# Altium footprint library QFP.PcbLib: 39 footprints (part 2 of 3)
Each footprint in its own frame and in the unit in brackets; x right, y up, seen from the top. Pads: shape width x height; smd on the part's side, far side on the other; paste and mask are expansions set on the pad; w line width, h text height; cw(c..) or ccw(c..) is an arc to the next point about the centre after c.
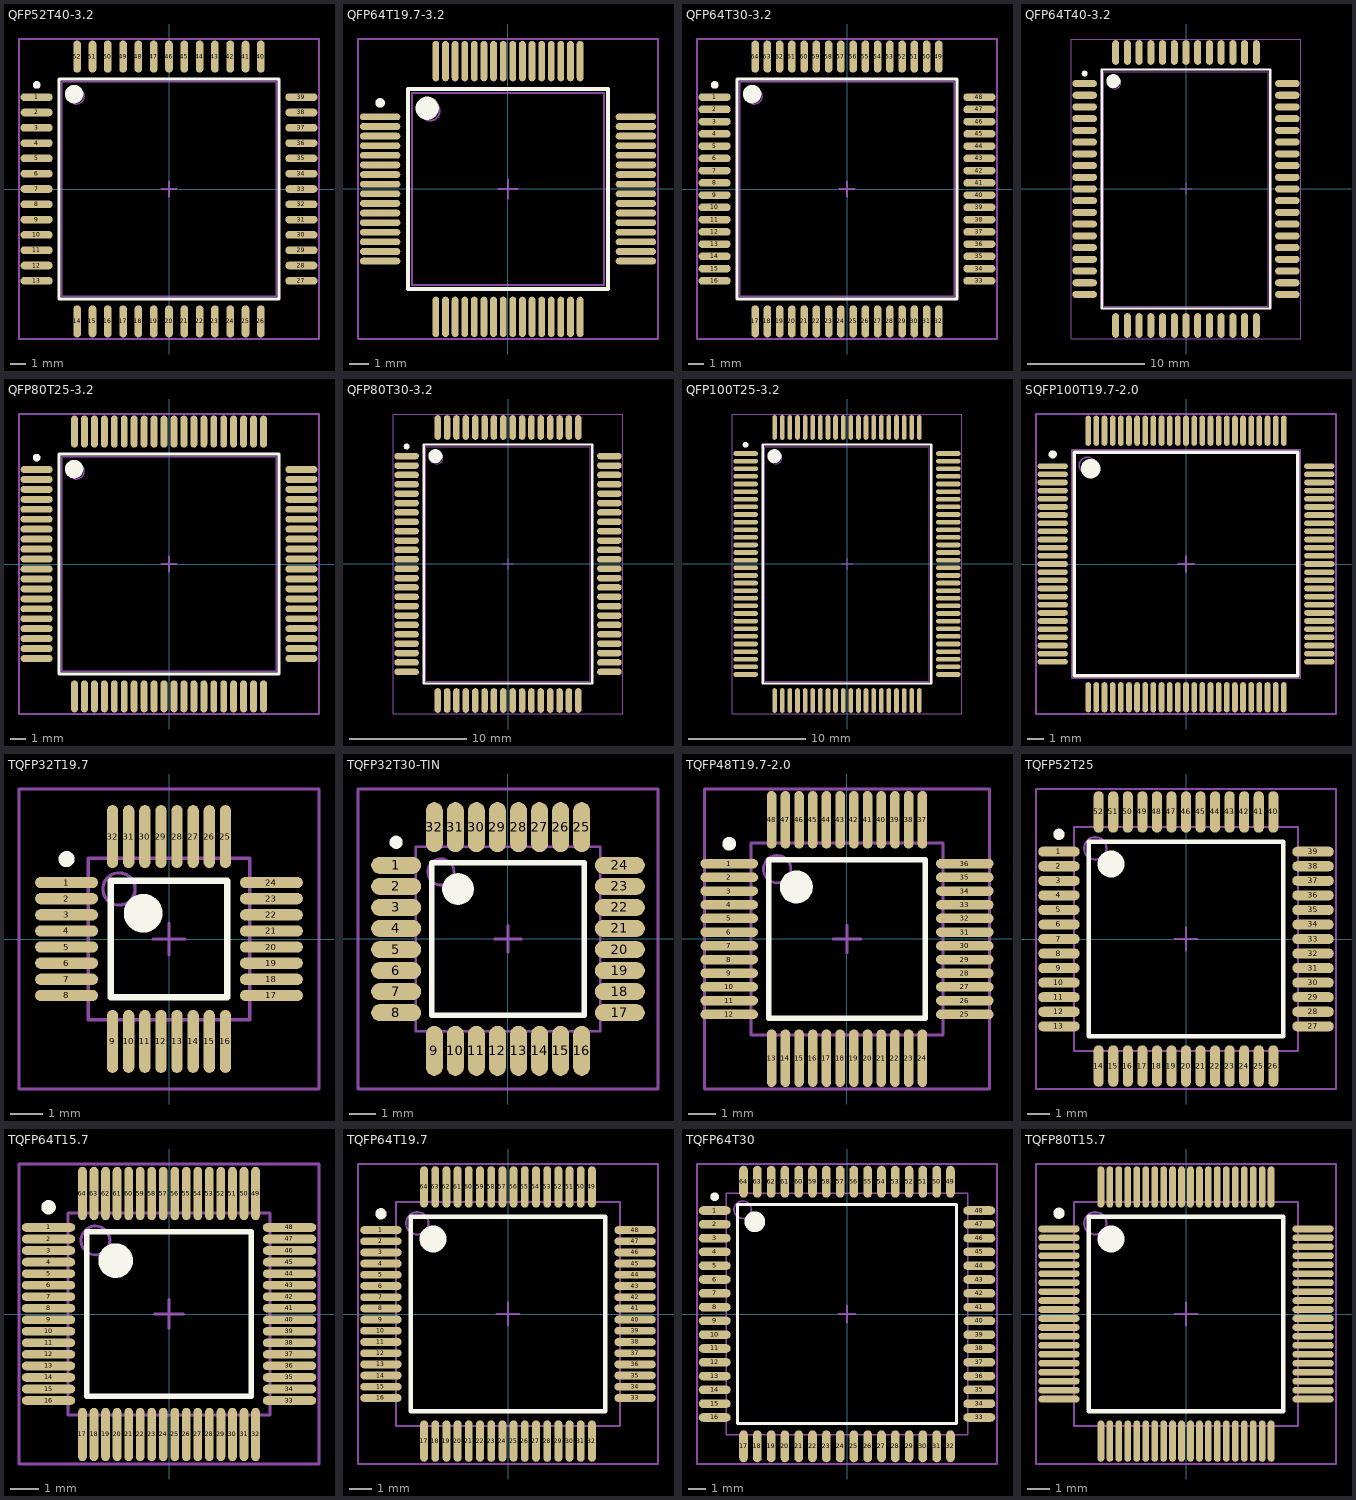
[diagram p1: the footprints below, top view; thin cyan lines are the x and y axes]

## QFP52T40-3.2 [mm] "52 3.2mm 14 x 14mm 1.0mm (40mil)"
height 2
pads (52):
  oval 2.1x0.5 smd: 1(-8.65,6) 2(-8.65,5) 3(-8.65,4) 4(-8.65,3) 5(-8.65,2) 6(-8.65,1) 7(-8.65,0) 8(-8.65,-1) 9(-8.65,-2) 10(-8.65,-3) 11(-8.65,-4) 12(-8.65,-5) 13(-8.65,-6) 27(8.65,-6) 28(8.65,-5) 29(8.65,-4) 30(8.65,-3) 31(8.65,-2) 32(8.65,-1) 33(8.65,0) 34(8.65,1) 35(8.65,2) 36(8.65,3) 37(8.65,4) 38(8.65,5) 39(8.65,6)
  oval 0.5x2.1 smd: 14(-6,-8.65) 15(-5,-8.65) 16(-4,-8.65) 17(-3,-8.65) 18(-2,-8.65) 19(-1,-8.65) 20(0,-8.65) 21(1,-8.65) 22(2,-8.65) 23(3,-8.65) 24(4,-8.65) 25(5,-8.65) 26(6,-8.65) 40(6,8.65) 41(5,8.65) 42(4,8.65) 43(3,8.65) 44(2,8.65) 45(1,8.65) 46(0,8.65) 47(-1,8.65) 48(-2,8.65) 49(-3,8.65) 50(-4,8.65) 51(-5,8.65) 52(-6,8.65)
Top Overlay:
  circle w0.6: c-6.2,6.2 r0.3
  circle w0.25: c-8.65,6.8 r0.125
  lines w0.2: -7.2,-7.2 7.2,-7.2 7.2,7.2 -7.2,7.2 -7.2,-7.2
Mechanical 13:
  circle w0.1: c-6.05,6.05 r0.5
  lines w0.1: -7,-7 7,-7 7,7 -7,7 -7,-7
Mechanical 15:
  lines w0.1: -0.5,0 0.5,0 ; 0,-0.5 0,0.5 ; -9.8,-9.8 9.8,-9.8 9.8,9.8 -9.8,9.8 -9.8,-9.8
3D body: height 2, standoff 0.4, extent -7,-7 7,7

## QFP64T19.7-3.2 [mm] "64 3.2mm 10 x 10mm 0.5mm (19.7mil)"
height 2
pads (64):
  oval 2.1x0.35 smd: 1(-6.65,3.75) 2(-6.65,3.25) 3(-6.65,2.75) 4(-6.65,2.25) 5(-6.65,1.75) 6(-6.65,1.25) 7(-6.65,0.75) 8(-6.65,0.25) 9(-6.65,-0.25) 10(-6.65,-0.75) 11(-6.65,-1.25) 12(-6.65,-1.75) 13(-6.65,-2.25) 14(-6.65,-2.75) 15(-6.65,-3.25) 16(-6.65,-3.75) 33(6.65,-3.75) 34(6.65,-3.25) 35(6.65,-2.75) 36(6.65,-2.25) 37(6.65,-1.75) 38(6.65,-1.25) 39(6.65,-0.75) 40(6.65,-0.25) 41(6.65,0.25) 42(6.65,0.75) 43(6.65,1.25) 44(6.65,1.75) 45(6.65,2.25) 46(6.65,2.75) 47(6.65,3.25) 48(6.65,3.75)
  oval 0.35x2.1 smd: 17(-3.75,-6.65) 18(-3.25,-6.65) 19(-2.75,-6.65) 20(-2.25,-6.65) 21(-1.75,-6.65) 22(-1.25,-6.65) 23(-0.75,-6.65) 24(-0.25,-6.65) 25(0.25,-6.65) 26(0.75,-6.65) 27(1.25,-6.65) 28(1.75,-6.65) 29(2.25,-6.65) 30(2.75,-6.65) 31(3.25,-6.65) 32(3.75,-6.65) 49(3.75,6.65) 50(3.25,6.65) 51(2.75,6.65) 52(2.25,6.65) 53(1.75,6.65) 54(1.25,6.65) 55(0.75,6.65) 56(0.25,6.65) 57(-0.25,6.65) 58(-0.75,6.65) 59(-1.25,6.65) 60(-1.75,6.65) 61(-2.25,6.65) 62(-2.75,6.65) 63(-3.25,6.65) 64(-3.75,6.65)
Top Overlay:
  circle w0.6: c-4.2,4.2 r0.3
  circle w0.25: c-6.65,4.475 r0.125
  lines w0.2: -5.2,-5.2 5.2,-5.2 5.2,5.2 -5.2,5.2 -5.2,-5.2
Mechanical 13:
  circle w0.1: c-4.05,4.05 r0.5
  lines w0.1: -5,-5 5,-5 5,5 -5,5 -5,-5
Mechanical 15:
  lines w0.1: -0.5,0 0.5,0 ; 0,-0.5 0,0.5 ; -7.8,-7.8 7.8,-7.8 7.8,7.8 -7.8,7.8 -7.8,-7.8
3D body: height 2, standoff 0.4, extent -5,-5 5,5

## QFP64T30-3.2 [mm] "64 3.2mm 14 x 14mm 0.8mm (31.5mil)"
height 2
pads (64):
  oval 2.1x0.5 smd: 1(-8.65,6) 2(-8.65,5.2) 3(-8.65,4.4) 4(-8.65,3.6) 5(-8.65,2.8) 6(-8.65,2) 7(-8.65,1.2) 8(-8.65,0.4) 9(-8.65,-0.4) 10(-8.65,-1.2) 11(-8.65,-2) 12(-8.65,-2.8) 13(-8.65,-3.6) 14(-8.65,-4.4) 15(-8.65,-5.2) 16(-8.65,-6) 33(8.65,-6) 34(8.65,-5.2) 35(8.65,-4.4) 36(8.65,-3.6) 37(8.65,-2.8) 38(8.65,-2) 39(8.65,-1.2) 40(8.65,-0.4) 41(8.65,0.4) 42(8.65,1.2) 43(8.65,2) 44(8.65,2.8) 45(8.65,3.6) 46(8.65,4.4) 47(8.65,5.2) 48(8.65,6)
  oval 0.5x2.1 smd: 17(-6,-8.65) 18(-5.2,-8.65) 19(-4.4,-8.65) 20(-3.6,-8.65) 21(-2.8,-8.65) 22(-2,-8.65) 23(-1.2,-8.65) 24(-0.4,-8.65) 25(0.4,-8.65) 26(1.2,-8.65) 27(2,-8.65) 28(2.8,-8.65) 29(3.6,-8.65) 30(4.4,-8.65) 31(5.2,-8.65) 32(6,-8.65) 49(6,8.65) 50(5.2,8.65) 51(4.4,8.65) 52(3.6,8.65) 53(2.8,8.65) 54(2,8.65) 55(1.2,8.65) 56(0.4,8.65) 57(-0.4,8.65) 58(-1.2,8.65) 59(-2,8.65) 60(-2.8,8.65) 61(-3.6,8.65) 62(-4.4,8.65) 63(-5.2,8.65) 64(-6,8.65)
Top Overlay:
  circle w0.25: c-8.65,6.8 r0.125
  circle w0.6: c-6.2,6.2 r0.3
  lines w0.2: -7.2,-7.2 -7.2,7.2 7.2,7.2 7.2,-7.2 -7.2,-7.2
Mechanical 13:
  circle w0.1: c-6.05,6.05 r0.5
  lines w0.1: -7,-7 -7,7 7,7 7,-7 -7,-7
Mechanical 15:
  lines w0.1: -0.5,0 0.5,0 ; 0,-0.5 0,0.5 ; -9.8,-9.8 -9.8,9.8 9.8,9.8 9.8,-9.8 -9.8,-9.8
3D body: height 2, standoff 0.4, extent -7,-7 7,7

## QFP64T40-3.2 [mm] "64 3.2mm 14 x 20mm 1.0mm (40mil)"
height 2.7
pads (64):
  oval 2.1x0.6 smd: 1(-8.65,9) 2(-8.65,8) 3(-8.65,7) 4(-8.65,6) 5(-8.65,5) 6(-8.65,4) 7(-8.65,3) 8(-8.65,2) 9(-8.65,1) 10(-8.65,0) 11(-8.65,-1) 12(-8.65,-2) 13(-8.65,-3) 14(-8.65,-4) 15(-8.65,-5) 16(-8.65,-6) 17(-8.65,-7) 18(-8.65,-8) 19(-8.65,-9) 33(8.65,-9) 34(8.65,-8) 35(8.65,-7) 36(8.65,-6) 37(8.65,-5) 38(8.65,-4) 39(8.65,-3) 40(8.65,-2) 41(8.65,-1) 42(8.65,0) 43(8.65,1) 44(8.65,2) 45(8.65,3) 46(8.65,4) 47(8.65,5) 48(8.65,6) 49(8.65,7) 50(8.65,8) 51(8.65,9)
  oval 0.6x2.1 smd: 20(-6,-11.65) 21(-5,-11.65) 22(-4,-11.65) 23(-3,-11.65) 24(-2,-11.65) 25(-1,-11.65) 26(0,-11.65) 27(1,-11.65) 28(2,-11.65) 29(3,-11.65) 30(4,-11.65) 31(5,-11.65) 32(6,-11.65) 52(6,11.65) 53(5,11.65) 54(4,11.65) 55(3,11.65) 56(2,11.65) 57(1,11.65) 58(0,11.65) 59(-1,11.65) 60(-2,11.65) 61(-3,11.65) 62(-4,11.65) 63(-5,11.65) 64(-6,11.65)
Top Overlay:
  circle w0.25: c-8.65,9.85 r0.125
  circle w0.6: c-6.2,9.2 r0.3
  lines w0.2: -7.2,-10.2 -7.2,10.2 7.2,10.2 7.2,-10.2 -7.2,-10.2
Mechanical 13:
  circle w0.1: c-6.05,9.05 r0.5
  lines w0.1: -7,-10 -7,10 7,10 7,-10 -7,-10
Mechanical 15:
  lines w0.1: -0.5,0 0.5,0 ; 0,-0.5 0,0.5 ; -9.8,-12.8 -9.8,12.8 9.8,12.8 9.8,-12.8 -9.8,-12.8
3D body: height 2.7, standoff 0.5, extent -7,-10 7,10

## QFP80T25-3.2 [mm] "80 3.2mm 14 x 14mm 0.65mm (25.6mil)"
height 2
pads (80):
  oval 2.1x0.45 smd: 1(-8.65,6.175) 2(-8.65,5.525) 3(-8.65,4.875) 4(-8.65,4.225) 5(-8.65,3.575) 6(-8.65,2.925) 7(-8.65,2.275) 8(-8.65,1.625) 9(-8.65,0.975) 10(-8.65,0.325) 11(-8.65,-0.325) 12(-8.65,-0.975) 13(-8.65,-1.625) 14(-8.65,-2.275) 15(-8.65,-2.925) 16(-8.65,-3.575) 17(-8.65,-4.225) 18(-8.65,-4.875) 19(-8.65,-5.525) 20(-8.65,-6.175) 41(8.65,-6.175) 42(8.65,-5.525) 43(8.65,-4.875) 44(8.65,-4.225) 45(8.65,-3.575) 46(8.65,-2.925) 47(8.65,-2.275) 48(8.65,-1.625) 49(8.65,-0.975) 50(8.65,-0.325) 51(8.65,0.325) 52(8.65,0.975) 53(8.65,1.625) 54(8.65,2.275) 55(8.65,2.925) 56(8.65,3.575) 57(8.65,4.225) 58(8.65,4.875) 59(8.65,5.525) 60(8.65,6.175)
  oval 0.45x2.1 smd: 21(-6.175,-8.65) 22(-5.525,-8.65) 23(-4.875,-8.65) 24(-4.225,-8.65) 25(-3.575,-8.65) 26(-2.925,-8.65) 27(-2.275,-8.65) 28(-1.625,-8.65) 29(-0.975,-8.65) 30(-0.325,-8.65) 31(0.325,-8.65) 32(0.975,-8.65) 33(1.625,-8.65) 34(2.275,-8.65) 35(2.925,-8.65) 36(3.575,-8.65) 37(4.225,-8.65) 38(4.875,-8.65) 39(5.525,-8.65) 40(6.175,-8.65) 61(6.175,8.65) 62(5.525,8.65) 63(4.875,8.65) 64(4.225,8.65) 65(3.575,8.65) 66(2.925,8.65) 67(2.275,8.65) 68(1.625,8.65) 69(0.975,8.65) 70(0.325,8.65) 71(-0.325,8.65) 72(-0.975,8.65) 73(-1.625,8.65) 74(-2.275,8.65) 75(-2.925,8.65) 76(-3.575,8.65) 77(-4.225,8.65) 78(-4.875,8.65) 79(-5.525,8.65) 80(-6.175,8.65)
Top Overlay:
  circle w0.25: c-8.65,6.95 r0.125
  circle w0.6: c-6.2,6.2 r0.3
  lines w0.2: -7.2,-7.2 -7.2,7.2 7.2,7.2 7.2,-7.2 -7.2,-7.2
Mechanical 13:
  circle w0.1: c-6.05,6.05 r0.5
  lines w0.1: -7,-7 -7,7 7,7 7,-7 -7,-7
Mechanical 15:
  lines w0.1: -0.5,0 0.5,0 ; 0,-0.5 0,0.5 ; -9.8,-9.8 -9.8,9.8 9.8,9.8 9.8,-9.8 -9.8,-9.8
3D body: height 2, standoff 0.4, extent -7,-7 7,7

## QFP80T30-3.2 [mm] "80 3.2mm 14 x 20mm 0.8mm (31.5mil)"
height 2.7
pads (80):
  oval 2.1x0.55 smd: 1(-8.65,9.2) 2(-8.65,8.4) 3(-8.65,7.6) 4(-8.65,6.8) 5(-8.65,6) 6(-8.65,5.2) 7(-8.65,4.4) 8(-8.65,3.6) 9(-8.65,2.8) 10(-8.65,2) 11(-8.65,1.2) 12(-8.65,0.4) 13(-8.65,-0.4) 14(-8.65,-1.2) 15(-8.65,-2) 16(-8.65,-2.8) 17(-8.65,-3.6) 18(-8.65,-4.4) 19(-8.65,-5.2) 20(-8.65,-6) 21(-8.65,-6.8) 22(-8.65,-7.6) 23(-8.65,-8.4) 24(-8.65,-9.2) 41(8.65,-9.2) 42(8.65,-8.4) 43(8.65,-7.6) 44(8.65,-6.8) 45(8.65,-6) 46(8.65,-5.2) 47(8.65,-4.4) 48(8.65,-3.6) 49(8.65,-2.8) 50(8.65,-2) 51(8.65,-1.2) 52(8.65,-0.4) 53(8.65,0.4) 54(8.65,1.2) 55(8.65,2) 56(8.65,2.8) 57(8.65,3.6) 58(8.65,4.4) 59(8.65,5.2) 60(8.65,6) 61(8.65,6.8) 62(8.65,7.6) 63(8.65,8.4) 64(8.65,9.2)
  oval 0.55x2.1 smd: 25(-6,-11.65) 26(-5.2,-11.65) 27(-4.4,-11.65) 28(-3.6,-11.65) 29(-2.8,-11.65) 30(-2,-11.65) 31(-1.2,-11.65) 32(-0.4,-11.65) 33(0.4,-11.65) 34(1.2,-11.65) 35(2,-11.65) 36(2.8,-11.65) 37(3.6,-11.65) 38(4.4,-11.65) 39(5.2,-11.65) 40(6,-11.65) 65(6,11.65) 66(5.2,11.65) 67(4.4,11.65) 68(3.6,11.65) 69(2.8,11.65) 70(2,11.65) 71(1.2,11.65) 72(0.4,11.65) 73(-0.4,11.65) 74(-1.2,11.65) 75(-2,11.65) 76(-2.8,11.65) 77(-3.6,11.65) 78(-4.4,11.65) 79(-5.2,11.65) 80(-6,11.65)
Top Overlay:
  circle w0.25: c-8.65,10.025 r0.125
  circle w0.6: c-6.2,9.2 r0.3
  lines w0.2: -7.2,-10.2 -7.2,10.2 7.2,10.2 7.2,-10.2 -7.2,-10.2
Mechanical 13:
  circle w0.1: c-6.05,9.05 r0.5
  lines w0.1: -7,-10 -7,10 7,10 7,-10 -7,-10
Mechanical 15:
  lines w0.1: -0.5,0 0.5,0 ; 0,-0.5 0,0.5 ; -9.8,-12.8 -9.8,12.8 9.8,12.8 9.8,-12.8 -9.8,-12.8
3D body: height 2.7, standoff 0.5, extent -7,-10 7,10

## QFP100T25-3.2 [mm] "100 3.2mm 14 x 20mm 0.65mm (25.6mil)"
height 2.7
pads (100):
  oval 2.1x0.4 smd: 1(-8.65,9.425) 2(-8.65,8.775) 3(-8.65,8.125) 4(-8.65,7.475) 5(-8.65,6.825) 6(-8.65,6.175) 7(-8.65,5.525) 8(-8.65,4.875) 9(-8.65,4.225) 10(-8.65,3.575) 11(-8.65,2.925) 12(-8.65,2.275) 13(-8.65,1.625) 14(-8.65,0.975) 15(-8.65,0.325) 16(-8.65,-0.325) 17(-8.65,-0.975) 18(-8.65,-1.625) 19(-8.65,-2.275) 20(-8.65,-2.925) 21(-8.65,-3.575) 22(-8.65,-4.225) 23(-8.65,-4.875) 24(-8.65,-5.525) 25(-8.65,-6.175) 26(-8.65,-6.825) 27(-8.65,-7.475) 28(-8.65,-8.125) 29(-8.65,-8.775) 30(-8.65,-9.425) 51(8.65,-9.425) 52(8.65,-8.775) 53(8.65,-8.125) 54(8.65,-7.475) 55(8.65,-6.825) 56(8.65,-6.175) 57(8.65,-5.525) 58(8.65,-4.875) 59(8.65,-4.225) 60(8.65,-3.575) 61(8.65,-2.925) 62(8.65,-2.275) 63(8.65,-1.625) 64(8.65,-0.975) 65(8.65,-0.325) 66(8.65,0.325) 67(8.65,0.975) 68(8.65,1.625) 69(8.65,2.275) 70(8.65,2.925) 71(8.65,3.575) 72(8.65,4.225) 73(8.65,4.875) 74(8.65,5.525) 75(8.65,6.175) 76(8.65,6.825) 77(8.65,7.475) 78(8.65,8.125) 79(8.65,8.775) 80(8.65,9.425)
  oval 0.4x2.1 smd: 31(-6.175,-11.65) 32(-5.525,-11.65) 33(-4.875,-11.65) 34(-4.225,-11.65) 35(-3.575,-11.65) 36(-2.925,-11.65) 37(-2.275,-11.65) 38(-1.625,-11.65) 39(-0.975,-11.65) 40(-0.325,-11.65) 41(0.325,-11.65) 42(0.975,-11.65) 43(1.625,-11.65) 44(2.275,-11.65) 45(2.925,-11.65) 46(3.575,-11.65) 47(4.225,-11.65) 48(4.875,-11.65) 49(5.525,-11.65) 50(6.175,-11.65) 81(6.175,11.65) 82(5.525,11.65) 83(4.875,11.65) 84(4.225,11.65) 85(3.575,11.65) 86(2.925,11.65) 87(2.275,11.65) 88(1.625,11.65) 89(0.975,11.65) 90(0.325,11.65) 91(-0.325,11.65) 92(-0.975,11.65) 93(-1.625,11.65) 94(-2.275,11.65) 95(-2.925,11.65) 96(-3.575,11.65) 97(-4.225,11.65) 98(-4.875,11.65) 99(-5.525,11.65) 100(-6.175,11.65)
Top Overlay:
  circle w0.25: c-8.65,10.175 r0.125
  circle w0.6: c-6.2,9.2 r0.3
  lines w0.2: -7.2,-10.2 -7.2,10.2 7.2,10.2 7.2,-10.2 -7.2,-10.2
Mechanical 13:
  circle w0.1: c-6.05,9.05 r0.5
  lines w0.1: -7,-10 -7,10 7,10 7,-10 -7,-10
Mechanical 15:
  lines w0.1: -0.5,0 0.5,0 ; 0,-0.5 0,0.5 ; -9.8,-12.8 -9.8,12.8 9.8,12.8 9.8,-12.8 -9.8,-12.8
3D body: height 2.7, standoff 0.5, extent -7,-10 7,10

## SQFP100T19.7-2.0 [mm] "100 2.0mm 14 x 14mm 0.5mm (19.7mil)"
height 2.7
pads (100):
  oval 1.85x0.35 smd: 1(-8.175,6) 2(-8.175,5.5) 3(-8.175,5) 4(-8.175,4.5) 5(-8.175,4) 6(-8.175,3.5) 7(-8.175,3) 8(-8.175,2.5) 9(-8.175,2) 10(-8.175,1.5) 11(-8.175,1) 12(-8.175,0.5) 13(-8.175,0) 14(-8.175,-0.5) 15(-8.175,-1) 16(-8.175,-1.5) 17(-8.175,-2) 18(-8.175,-2.5) 19(-8.175,-3) 20(-8.175,-3.5) 21(-8.175,-4) 22(-8.175,-4.5) 23(-8.175,-5) 24(-8.175,-5.5) 25(-8.175,-6) 51(8.175,-6) 52(8.175,-5.5) 53(8.175,-5) 54(8.175,-4.5) 55(8.175,-4) 56(8.175,-3.5) 57(8.175,-3) 58(8.175,-2.5) 59(8.175,-2) 60(8.175,-1.5) 61(8.175,-1) 62(8.175,-0.5) 63(8.175,0) 64(8.175,0.5) 65(8.175,1) 66(8.175,1.5) 67(8.175,2) 68(8.175,2.5) 69(8.175,3) 70(8.175,3.5) 71(8.175,4) 72(8.175,4.5) 73(8.175,5) 74(8.175,5.5) 75(8.175,6)
  oval 0.35x1.85 smd: 26(-6,-8.175) 27(-5.5,-8.175) 28(-5,-8.175) 29(-4.5,-8.175) 30(-4,-8.175) 31(-3.5,-8.175) 32(-3,-8.175) 33(-2.5,-8.175) 34(-2,-8.175) 35(-1.5,-8.175) 36(-1,-8.175) 37(-0.5,-8.175) 38(0,-8.175) 39(0.5,-8.175) 40(1,-8.175) 41(1.5,-8.175) 42(2,-8.175) 43(2.5,-8.175) 44(3,-8.175) 45(3.5,-8.175) 46(4,-8.175) 47(4.5,-8.175) 48(5,-8.175) 49(5.5,-8.175) 50(6,-8.175) 76(6,8.175) 77(5.5,8.175) 78(5,8.175) 79(4.5,8.175) 80(4,8.175) 81(3.5,8.175) 82(3,8.175) 83(2.5,8.175) 84(2,8.175) 85(1.5,8.175) 86(1,8.175) 87(0.5,8.175) 88(0,8.175) 89(-0.5,8.175) 90(-1,8.175) 91(-1.5,8.175) 92(-2,8.175) 93(-2.5,8.175) 94(-3,8.175) 95(-3.5,8.175) 96(-4,8.175) 97(-4.5,8.175) 98(-5,8.175) 99(-5.5,8.175) 100(-6,8.175)
Top Overlay:
  circle w0.6: c-5.85,5.85 r0.3
  circle w0.25: c-8.175,6.725 r0.125
  lines w0.2: -6.85,-6.85 6.85,-6.85 6.85,6.85 -6.85,6.85 -6.85,-6.85
Mechanical 13:
  circle w0.1: c-6.05,6.05 r0.5
  lines w0.1: -7,-7 7,-7 7,7 -7,7 -7,-7
Mechanical 15:
  lines w0.1: -0.5,0 0.5,0 ; 0,-0.5 0,0.5 ; -9.2,-9.2 9.2,-9.2 9.2,9.2 -9.2,9.2 -9.2,-9.2
3D body: height 2.7, standoff 0.2, extent -7,-7 7,7

## TQFP32T19.7 [mm] "32 pos, 5 x 5mm body,  0.5mm (19.7mil) pitch"
height 1.3
pads (32):
  oval 1.95x0.35 smd: 1(-3.175,1.75) 2(-3.175,1.25) 3(-3.175,0.75) 4(-3.175,0.25) 5(-3.175,-0.25) 6(-3.175,-0.75) 7(-3.175,-1.25) 8(-3.175,-1.75) 17(3.175,-1.75) 18(3.175,-1.25) 19(3.175,-0.75) 20(3.175,-0.25) 21(3.175,0.25) 22(3.175,0.75) 23(3.175,1.25) 24(3.175,1.75)
  oval 0.35x1.95 smd: 9(-1.75,-3.175) 10(-1.25,-3.175) 11(-0.75,-3.175) 12(-0.25,-3.175) 13(0.25,-3.175) 14(0.75,-3.175) 15(1.25,-3.175) 16(1.75,-3.175) 25(1.75,3.175) 26(1.25,3.175) 27(0.75,3.175) 28(0.25,3.175) 29(-0.25,3.175) 30(-0.75,3.175) 31(-1.25,3.175) 32(-1.75,3.175)
Top Overlay:
  circle w0.25: c-3.175,2.475 r0.125
  circle w0.6: c-0.8,0.8 r0.3
  lines w0.2: -1.8,-1.8 -1.8,1.8 1.8,1.8 1.8,-1.8 -1.8,-1.8
Mechanical 13:
  circle w0.1: c-1.55,1.55 r0.5
  lines w0.1: -2.5,-2.5 -2.5,2.5 2.5,2.5 2.5,-2.5 -2.5,-2.5
Mechanical 15:
  lines w0.1: -0.5,0 0.5,0 ; 0,-0.5 0,0.5 ; -4.65,-4.65 -4.65,4.65 4.65,4.65 4.65,-4.65 -4.65,-4.65
3D body: height 1.3, standoff 0.1, extent -2.5,-2.5 2.5,2.5

## TQFP32T30-TIN [mm] "32  pos 7 x 7mm  body 0.8mm (31.5mil) pitch"
height 1.3
pads (32):
  oval 1.9x0.65 smd: 1(-4.25,2.8) 2(-4.25,2) 3(-4.25,1.2) 4(-4.25,0.4) 5(-4.25,-0.4) 6(-4.25,-1.2) 7(-4.25,-2) 8(-4.25,-2.8) 17(4.25,-2.8) 18(4.25,-2) 19(4.25,-1.2) 20(4.25,-0.4) 21(4.25,0.4) 22(4.25,1.2) 23(4.25,2) 24(4.25,2.8)
  oval 0.65x1.9 smd: 9(-2.8,-4.25) 10(-2,-4.25) 11(-1.2,-4.25) 12(-0.4,-4.25) 13(0.4,-4.25) 14(1.2,-4.25) 15(2,-4.25) 16(2.8,-4.25) 25(2.8,4.25) 26(2,4.25) 27(1.2,4.25) 28(0.4,4.25) 29(-0.4,4.25) 30(-1.2,4.25) 31(-2,4.25) 32(-2.8,4.25)
Top Overlay:
  circle w0.6: c-1.9,1.9 r0.3
  circle w0.25: c-4.25,3.675 r0.125
  lines w0.2: -2.9,-2.9 2.9,-2.9 2.9,2.9 -2.9,2.9 -2.9,-2.9
Mechanical 13:
  circle w0.1: c-2.55,2.55 r0.5
  lines w0.1: -3.5,-3.5 3.5,-3.5 3.5,3.5 -3.5,3.5 -3.5,-3.5
Mechanical 15:
  lines w0.1: -0.5,0 0.5,0 ; 0,-0.5 0,0.5 ; -5.7,-5.7 5.7,-5.7 5.7,5.7 -5.7,5.7 -5.7,-5.7
3D body: height 1.3, standoff 0.1, extent -3.5,-3.5 3.5,3.5

## TQFP48T19.7-2.0 [mm] "Leads 48 Pitch 0.5mm Body Size 7mmSQ"
height 1.2
pads (48):
  oval 2.1x0.35 smd: 1(-4.3,2.75) 2(-4.3,2.25) 3(-4.3,1.75) 4(-4.3,1.25) 5(-4.3,0.75) 6(-4.3,0.25) 7(-4.3,-0.25) 8(-4.3,-0.75) 9(-4.3,-1.25) 10(-4.3,-1.75) 11(-4.3,-2.25) 12(-4.3,-2.75) 25(4.3,-2.75) 26(4.3,-2.25) 27(4.3,-1.75) 28(4.3,-1.25) 29(4.3,-0.75) 30(4.3,-0.25) 31(4.3,0.25) 32(4.3,0.75) 33(4.3,1.25) 34(4.3,1.75) 35(4.3,2.25) 36(4.3,2.75)
  oval 0.35x2.1 smd: 13(-2.75,-4.35) 14(-2.25,-4.35) 15(-1.75,-4.35) 16(-1.25,-4.35) 17(-0.75,-4.35) 18(-0.25,-4.35) 19(0.25,-4.35) 20(0.75,-4.35) 21(1.25,-4.35) 22(1.75,-4.35) 23(2.25,-4.35) 24(2.75,-4.35) 37(2.75,4.35) 38(2.25,4.35) 39(1.75,4.35) 40(1.25,4.35) 41(0.75,4.35) 42(0.25,4.35) 43(-0.25,4.35) 44(-0.75,4.35) 45(-1.25,4.35) 46(-1.75,4.35) 47(-2.25,4.35) 48(-2.75,4.35)
Top Overlay:
  circle w0.6: c-1.85,1.9 r0.3
  circle w0.25: c-4.3,3.475 r0.125
  lines w0.2: -2.85,-2.9 2.85,-2.9 2.85,2.9 -2.85,2.9 -2.85,-2.9
Mechanical 13:
  circle w0.1: c-2.55,2.55 r0.5
  lines w0.1: -3.5,-3.5 3.5,-3.5 3.5,3.5 -3.5,3.5 -3.5,-3.5
Mechanical 15:
  lines w0.1: -0.5,0 0.5,0 ; 0,-0.5 0,0.5 ; -5.2,-5.475 5.2,-5.475 5.2,5.475 -5.2,5.475 -5.2,-5.475
3D body: height 1.2, standoff 0.2, extent -3.5,-3.5 3.5,3.5

## TQFP52T25 [mm] "52   10 x 10mm   0.65mm (25.6mil)"
height 1
pads (52):
  oval 1.85x0.45 smd: 1(-5.675,3.9) 2(-5.675,3.25) 3(-5.675,2.6) 4(-5.675,1.95) 5(-5.675,1.3) 6(-5.675,0.65) 7(-5.675,0) 8(-5.675,-0.65) 9(-5.675,-1.3) 10(-5.675,-1.95) 11(-5.675,-2.6) 12(-5.675,-3.25) 13(-5.675,-3.9) 27(5.675,-3.9) 28(5.675,-3.25) 29(5.675,-2.6) 30(5.675,-1.95) 31(5.675,-1.3) 32(5.675,-0.65) 33(5.675,0) 34(5.675,0.65) 35(5.675,1.3) 36(5.675,1.95) 37(5.675,2.6) 38(5.675,3.25) 39(5.675,3.9)
  oval 0.45x1.85 smd: 14(-3.9,-5.675) 15(-3.25,-5.675) 16(-2.6,-5.675) 17(-1.95,-5.675) 18(-1.3,-5.675) 19(-0.65,-5.675) 20(0,-5.675) 21(0.65,-5.675) 22(1.3,-5.675) 23(1.95,-5.675) 24(2.6,-5.675) 25(3.25,-5.675) 26(3.9,-5.675) 40(3.9,5.675) 41(3.25,5.675) 42(2.6,5.675) 43(1.95,5.675) 44(1.3,5.675) 45(0.65,5.675) 46(0,5.675) 47(-0.65,5.675) 48(-1.3,5.675) 49(-1.95,5.675) 50(-2.6,5.675) 51(-3.25,5.675) 52(-3.9,5.675)
Top Overlay:
  circle w0.6: c-3.35,3.35 r0.3
  circle w0.25: c-5.675,4.675 r0.125
  lines w0.2: -4.35,-4.35 4.35,-4.35 4.35,4.35 -4.35,4.35 -4.35,-4.35
Mechanical 13:
  circle w0.1: c-4.05,4.05 r0.5
  lines w0.1: -5,-5 5,-5 5,5 -5,5 -5,-5
Mechanical 15:
  lines w0.1: -0.5,0 0.5,0 ; 0,-0.5 0,0.5 ; -6.7,-6.7 6.7,-6.7 6.7,6.7 -6.7,6.7 -6.7,-6.7
3D body: height 1, standoff 0.2, extent -5,-5 5,5

## TQFP64T15.7 [mm] "64   7 x 7mm   0.4mm (15.7mil)"
height 1
pads (64):
  oval 1.85x0.3 smd: 1(-4.175,3) 2(-4.175,2.6) 3(-4.175,2.2) 4(-4.175,1.8) 5(-4.175,1.4) 6(-4.175,1) 7(-4.175,0.6) 8(-4.175,0.2) 9(-4.175,-0.2) 10(-4.175,-0.6) 11(-4.175,-1) 12(-4.175,-1.4) 13(-4.175,-1.8) 14(-4.175,-2.2) 15(-4.175,-2.6) 16(-4.175,-3) 33(4.175,-3) 34(4.175,-2.6) 35(4.175,-2.2) 36(4.175,-1.8) 37(4.175,-1.4) 38(4.175,-1) 39(4.175,-0.6) 40(4.175,-0.2) 41(4.175,0.2) 42(4.175,0.6) 43(4.175,1) 44(4.175,1.4) 45(4.175,1.8) 46(4.175,2.2) 47(4.175,2.6) 48(4.175,3)
  oval 0.3x1.85 smd: 17(-3,-4.175) 18(-2.6,-4.175) 19(-2.2,-4.175) 20(-1.8,-4.175) 21(-1.4,-4.175) 22(-1,-4.175) 23(-0.6,-4.175) 24(-0.2,-4.175) 25(0.2,-4.175) 26(0.6,-4.175) 27(1,-4.175) 28(1.4,-4.175) 29(1.8,-4.175) 30(2.2,-4.175) 31(2.6,-4.175) 32(3,-4.175) 49(3,4.175) 50(2.6,4.175) 51(2.2,4.175) 52(1.8,4.175) 53(1.4,4.175) 54(1,4.175) 55(0.6,4.175) 56(0.2,4.175) 57(-0.2,4.175) 58(-0.6,4.175) 59(-1,4.175) 60(-1.4,4.175) 61(-1.8,4.175) 62(-2.2,4.175) 63(-2.6,4.175) 64(-3,4.175)
Top Overlay:
  circle w0.6: c-1.85,1.85 r0.3
  circle w0.25: c-4.175,3.7 r0.125
  lines w0.2: -2.85,-2.85 2.85,-2.85 2.85,2.85 -2.85,2.85 -2.85,-2.85
Mechanical 13:
  circle w0.1: c-2.55,2.55 r0.5
  lines w0.1: -3.5,-3.5 3.5,-3.5 3.5,3.5 -3.5,3.5 -3.5,-3.5
Mechanical 15:
  lines w0.1: -0.5,0 0.5,0 ; 0,-0.5 0,0.5 ; -5.2,-5.2 5.2,-5.2 5.2,5.2 -5.2,5.2 -5.2,-5.2
3D body: height 1, standoff 0.2, extent -3.5,-3.5 3.5,3.5

## TQFP64T19.7 [mm] "64   10 x 10mm   0.5mm (19.7mil)"
height 1
pads (64):
  oval 1.85x0.35 smd: 1(-5.675,3.75) 2(-5.675,3.25) 3(-5.675,2.75) 4(-5.675,2.25) 5(-5.675,1.75) 6(-5.675,1.25) 7(-5.675,0.75) 8(-5.675,0.25) 9(-5.675,-0.25) 10(-5.675,-0.75) 11(-5.675,-1.25) 12(-5.675,-1.75) 13(-5.675,-2.25) 14(-5.675,-2.75) 15(-5.675,-3.25) 16(-5.675,-3.75) 33(5.675,-3.75) 34(5.675,-3.25) 35(5.675,-2.75) 36(5.675,-2.25) 37(5.675,-1.75) 38(5.675,-1.25) 39(5.675,-0.75) 40(5.675,-0.25) 41(5.675,0.25) 42(5.675,0.75) 43(5.675,1.25) 44(5.675,1.75) 45(5.675,2.25) 46(5.675,2.75) 47(5.675,3.25) 48(5.675,3.75)
  oval 0.35x1.85 smd: 17(-3.75,-5.675) 18(-3.25,-5.675) 19(-2.75,-5.675) 20(-2.25,-5.675) 21(-1.75,-5.675) 22(-1.25,-5.675) 23(-0.75,-5.675) 24(-0.25,-5.675) 25(0.25,-5.675) 26(0.75,-5.675) 27(1.25,-5.675) 28(1.75,-5.675) 29(2.25,-5.675) 30(2.75,-5.675) 31(3.25,-5.675) 32(3.75,-5.675) 49(3.75,5.675) 50(3.25,5.675) 51(2.75,5.675) 52(2.25,5.675) 53(1.75,5.675) 54(1.25,5.675) 55(0.75,5.675) 56(0.25,5.675) 57(-0.25,5.675) 58(-0.75,5.675) 59(-1.25,5.675) 60(-1.75,5.675) 61(-2.25,5.675) 62(-2.75,5.675) 63(-3.25,5.675) 64(-3.75,5.675)
Top Overlay:
  circle w0.6: c-3.35,3.35 r0.3
  circle w0.25: c-5.675,4.475 r0.125
  lines w0.2: -4.35,-4.35 4.35,-4.35 4.35,4.35 -4.35,4.35 -4.35,-4.35
Mechanical 13:
  circle w0.1: c-4.05,4.05 r0.5
  lines w0.1: -5,-5 5,-5 5,5 -5,5 -5,-5
Mechanical 15:
  lines w0.1: -0.5,0 0.5,0 ; 0,-0.5 0,0.5 ; -6.7,-6.7 6.7,-6.7 6.7,6.7 -6.7,6.7 -6.7,-6.7
3D body: height 1, standoff 0.2, extent -5,-5 5,5

## TQFP64T30 [mm] "64   14 x 14mm   0.8mm (31.5mil)"
height 1
pads (64):
  oval 1.85x0.5 smd: 1(-7.675,6) 2(-7.675,5.2) 3(-7.675,4.4) 4(-7.675,3.6) 5(-7.675,2.8) 6(-7.675,2) 7(-7.675,1.2) 8(-7.675,0.4) 9(-7.675,-0.4) 10(-7.675,-1.2) 11(-7.675,-2) 12(-7.675,-2.8) 13(-7.675,-3.6) 14(-7.675,-4.4) 15(-7.675,-5.2) 16(-7.675,-6) 33(7.675,-6) 34(7.675,-5.2) 35(7.675,-4.4) 36(7.675,-3.6) 37(7.675,-2.8) 38(7.675,-2) 39(7.675,-1.2) 40(7.675,-0.4) 41(7.675,0.4) 42(7.675,1.2) 43(7.675,2) 44(7.675,2.8) 45(7.675,3.6) 46(7.675,4.4) 47(7.675,5.2) 48(7.675,6)
  oval 0.5x1.85 smd: 17(-6,-7.675) 18(-5.2,-7.675) 19(-4.4,-7.675) 20(-3.6,-7.675) 21(-2.8,-7.675) 22(-2,-7.675) 23(-1.2,-7.675) 24(-0.4,-7.675) 25(0.4,-7.675) 26(1.2,-7.675) 27(2,-7.675) 28(2.8,-7.675) 29(3.6,-7.675) 30(4.4,-7.675) 31(5.2,-7.675) 32(6,-7.675) 49(6,7.675) 50(5.2,7.675) 51(4.4,7.675) 52(3.6,7.675) 53(2.8,7.675) 54(2,7.675) 55(1.2,7.675) 56(0.4,7.675) 57(-0.4,7.675) 58(-1.2,7.675) 59(-2,7.675) 60(-2.8,7.675) 61(-3.6,7.675) 62(-4.4,7.675) 63(-5.2,7.675) 64(-6,7.675)
Top Overlay:
  circle w0.6: c-5.35,5.35 r0.3
  circle w0.25: c-7.675,6.8 r0.125
  lines w0.2: -6.35,-6.35 6.35,-6.35 6.35,6.35 -6.35,6.35 -6.35,-6.35
Mechanical 13:
  circle w0.1: c-6.05,6.05 r0.5
  lines w0.1: -7,-7 7,-7 7,7 -7,7 -7,-7
Mechanical 15:
  lines w0.1: -0.5,0 0.5,0 ; 0,-0.5 0,0.5 ; -8.7,-8.7 8.7,-8.7 8.7,8.7 -8.7,8.7 -8.7,-8.7
3D body: height 1, standoff 0.2, extent -7,-7 7,7

## TQFP80T15.7 [mm] "80 10 x 10mm 0.4mm (15.7mil)"
height 1
pads (80):
  oval 1.85x0.3 smd: 1(-5.675,3.8) 2(-5.675,3.4) 3(-5.675,3) 4(-5.675,2.6) 5(-5.675,2.2) 6(-5.675,1.8) 7(-5.675,1.4) 8(-5.675,1) 9(-5.675,0.6) 10(-5.675,0.2) 11(-5.675,-0.2) 12(-5.675,-0.6) 13(-5.675,-1) 14(-5.675,-1.4) 15(-5.675,-1.8) 16(-5.675,-2.2) 17(-5.675,-2.6) 18(-5.675,-3) 19(-5.675,-3.4) 20(-5.675,-3.8) 41(5.675,-3.8) 42(5.675,-3.4) 43(5.675,-3) 44(5.675,-2.6) 45(5.675,-2.2) 46(5.675,-1.8) 47(5.675,-1.4) 48(5.675,-1) 49(5.675,-0.6) 50(5.675,-0.2) 51(5.675,0.2) 52(5.675,0.6) 53(5.675,1) 54(5.675,1.4) 55(5.675,1.8) 56(5.675,2.2) 57(5.675,2.6) 58(5.675,3) 59(5.675,3.4) 60(5.675,3.8)
  oval 0.3x1.85 smd: 21(-3.8,-5.675) 22(-3.4,-5.675) 23(-3,-5.675) 24(-2.6,-5.675) 25(-2.2,-5.675) 26(-1.8,-5.675) 27(-1.4,-5.675) 28(-1,-5.675) 29(-0.6,-5.675) 30(-0.2,-5.675) 31(0.2,-5.675) 32(0.6,-5.675) 33(1,-5.675) 34(1.4,-5.675) 35(1.8,-5.675) 36(2.2,-5.675) 37(2.6,-5.675) 38(3,-5.675) 39(3.4,-5.675) 40(3.8,-5.675) 61(3.8,5.675) 62(3.4,5.675) 63(3,5.675) 64(2.6,5.675) 65(2.2,5.675) 66(1.8,5.675) 67(1.4,5.675) 68(1,5.675) 69(0.6,5.675) 70(0.2,5.675) 71(-0.2,5.675) 72(-0.6,5.675) 73(-1,5.675) 74(-1.4,5.675) 75(-1.8,5.675) 76(-2.2,5.675) 77(-2.6,5.675) 78(-3,5.675) 79(-3.4,5.675) 80(-3.8,5.675)
Top Overlay:
  circle w0.6: c-3.35,3.35 r0.3
  circle w0.25: c-5.675,4.5 r0.125
  lines w0.2: -4.35,-4.35 4.35,-4.35 4.35,4.35 -4.35,4.35 -4.35,-4.35
Mechanical 13:
  circle w0.1: c-4.05,4.05 r0.5
  lines w0.1: -5,-5 5,-5 5,5 -5,5 -5,-5
Mechanical 15:
  lines w0.1: -0.5,0 0.5,0 ; 0,-0.5 0,0.5 ; -6.7,-6.7 6.7,-6.7 6.7,6.7 -6.7,6.7 -6.7,-6.7
3D body: height 1, standoff 0.2, extent -5,-5 5,5